# Altium schematic symbol library QuadrupedSchLib.SchLib: 4 symbols
Pins are listed as number, name and electrical type; pins without a type are passive.

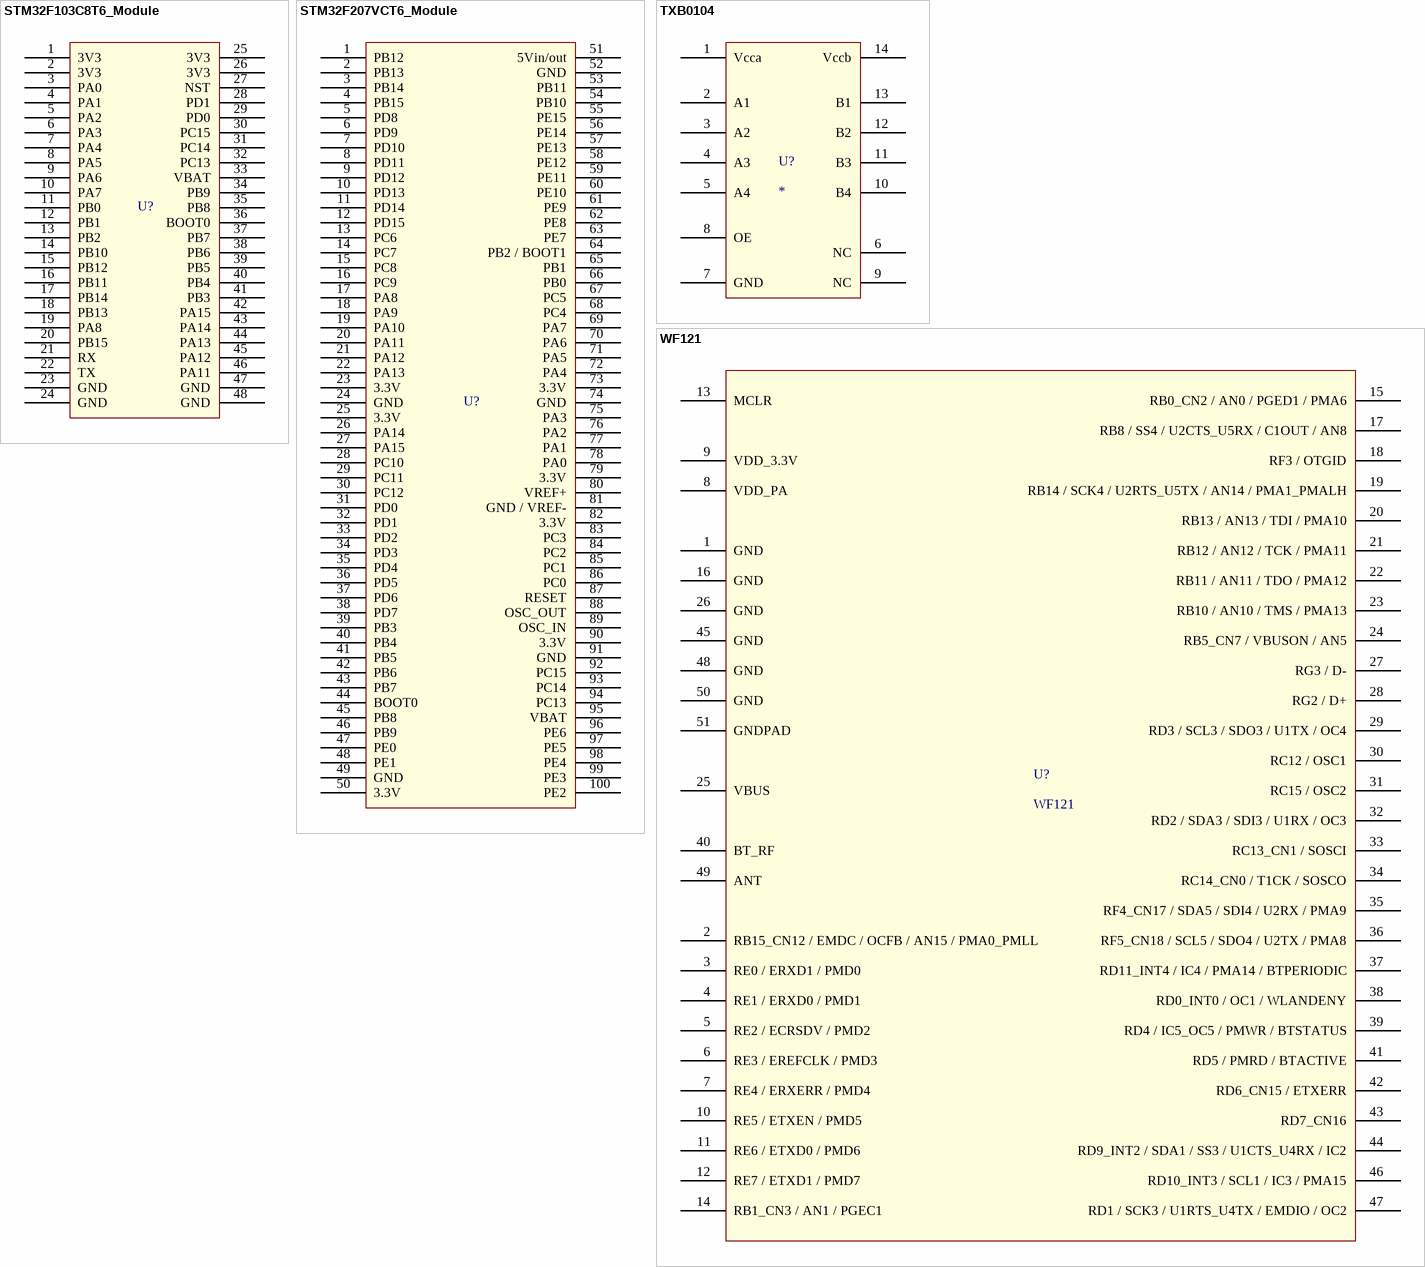
[diagram p0: symbols STM32F103C8T6_Module to WF121]

## STM32F103C8T6_Module
designator U?  (value not drawn)
footprint STM32F103C8T6_Module
pins: 1 3V3, 2 3V3, 3 PA0, 4 PA1, 5 PA2, 6 PA3, 7 PA4, 8 PA5, 9 PA6, 10 PA7, 11 PB0, 12 PB1, 13 PB2, 14 PB10, 15 PB12, 16 PB11, 17 PB14, 18 PB13, 19 PA8, 20 PB15, 21 RX, 22 TX, 23 GND, 24 GND, 25 3V3, 26 3V3, 27 NST, 28 PD1, 29 PD0, 30 PC15, 31 PC14, 32 PC13, 33 VBAT, 34 PB9, 35 PB8, 36 BOOT0, 37 PB7, 38 PB6, 39 PB5, 40 PB4, 41 PB3, 42 PA15, 43 PA14, 44 PA13, 45 PA12, 46 PA11, 47 GND, 48 GND

## STM32F207VCT6_Module
designator U?  (value not drawn)
footprint STM32F207VCT6_Module
pins: 1 PB12, 2 PB13, 3 PB14, 4 PB15, 5 PD8, 6 PD9, 7 PD10, 8 PD11, 9 PD12, 10 PD13, 11 PD14, 12 PD15, 13 PC6, 14 PC7, 15 PC8, 16 PC9, 17 PA8, 18 PA9, 19 PA10, 20 PA11, 21 PA12, 22 PA13, 23 3.3V (power), 24 GND (power), 25 3.3V (power), 26 PA14, 27 PA15, 28 PC10, 29 PC11, 30 PC12, 31 PD0, 32 PD1, 33 PD2, 34 PD3, 35 PD4, 36 PD5, 37 PD6, 38 PD7, 39 PB3, 40 PB4, 41 PB5, 42 PB6, 43 PB7, 44 BOOT0, 45 PB8, 46 PB9, 47 PE0, 48 PE1, 49 GND (power), 50 3.3V (power), 51 5Vin/out (power), 52 GND (power), 53 PB11, 54 PB10, 55 PE15, 56 PE14, 57 PE13, 58 PE12, 59 PE11, 60 PE10, 61 PE9, 62 PE8, 63 PE7, 64 PB2 / BOOT1, 65 PB1, 66 PB0, 67 PC5, 68 PC4, 69 PA7, 70 PA6, 71 PA5, 72 PA4, 73 3.3V (power), 74 GND (power), 75 PA3, 76 PA2, 77 PA1, 78 PA0, 79 3.3V (power), 80 VREF+, 81 GND / VREF-, 82 3.3V (power), 83 PC3, 84 PC2, 85 PC1, 86 PC0, 87 RESET, 88 OSC_OUT, 89 OSC_IN, 90 3.3V (power), 91 GND (power), 92 PC15, 93 PC14, 94 PC13, 95 VBAT, 96 PE6, 97 PE5, 98 PE4, 99 PE3, 100 PE2

## TXB0104
designator U?
footprint TSSOP65P640X120-14N (TSSOP, 14-Leads, Body 5.00x4.40mm, Pitch 0.65mm, IPC Medium Density)
pins: 1 Vcca (power), 2 A1, 3 A2, 4 A3, 5 A4, 6 NC, 7 GND (power), 8 OE, 9 NC, 10 B4, 11 B3, 12 B2, 13 B1, 14 Vccb

## WF121
designator U?
footprint WF121
pins: 1 GND (power), 2 RB15_CN12 / EMDC / OCFB / AN15 / PMA0_PMLL, 3 RE0 / ERXD1 / PMD0, 4 RE1 / ERXD0 / PMD1, 5 RE2 / ECRSDV / PMD2, 6 RE3 / EREFCLK / PMD3, 7 RE4 / ERXERR / PMD4, 8 VDD_PA (power), 9 VDD_3.3V (power), 10 RE5 / ETXEN / PMD5, 11 RE6 / ETXD0 / PMD6, 12 RE7 / ETXD1 / PMD7, 13 MCLR, 14 RB1_CN3 / AN1 / PGEC1, 15 RB0_CN2 / AN0 / PGED1 / PMA6, 16 GND (power), 17 RB8 / SS4 / U2CTS_U5RX / C1OUT / AN8, 18 RF3 / OTGID, 19 RB14 / SCK4 / U2RTS_U5TX / AN14 / PMA1_PMALH, 20 RB13 / AN13 / TDI / PMA10, 21 RB12 / AN12 / TCK / PMA11, 22 RB11 / AN11 / TDO / PMA12, 23 RB10 / AN10 / TMS / PMA13, 24 RB5_CN7 / VBUSON / AN5, 25 VBUS (power), 26 GND (power), 27 RG3 / D-, 28 RG2 / D+, 29 RD3 / SCL3 / SDO3 / U1TX / OC4, 30 RC12 / OSC1, 31 RC15 / OSC2, 32 RD2 / SDA3 / SDI3 / U1RX / OC3, 33 RC13_CN1 / SOSCI, 34 RC14_CN0 / T1CK / SOSCO, 35 RF4_CN17 / SDA5 / SDI4 / U2RX / PMA9, 36 RF5_CN18 / SCL5 / SDO4 / U2TX / PMA8, 37 RD11_INT4 / IC4 / PMA14 / BTPERIODIC, 38 RD0_INT0 / OC1 / WLANDENY, 39 RD4 / IC5_OC5 / PMWR / BTSTATUS, 40 BT_RF, 41 RD5 / PMRD / BTACTIVE, 42 RD6_CN15 / ETXERR, 43 RD7_CN16, 44 RD9_INT2 / SDA1 / SS3 / U1CTS_U4RX / IC2, 45 GND (power), 46 RD10_INT3 / SCL1 / IC3 / PMA15, 47 RD1 / SCK3 / U1RTS_U4TX / EMDIO / OC2, 48 GND (power), 49 ANT, 50 GND (power), 51 GNDPAD (power)